# EAGLE library part LPC1114/DIP28 (library microbuilder)
LPC1114 MCU DIP28 Package ARM Cortex M0, 50MHz Operation, 6 Channel 10-Bit ADC, 1²C, SPI, UART, 2x16 Bit and 2x32 Bit Timers, Internal 12MHz Oscillator, 1.8-3.6V operation.
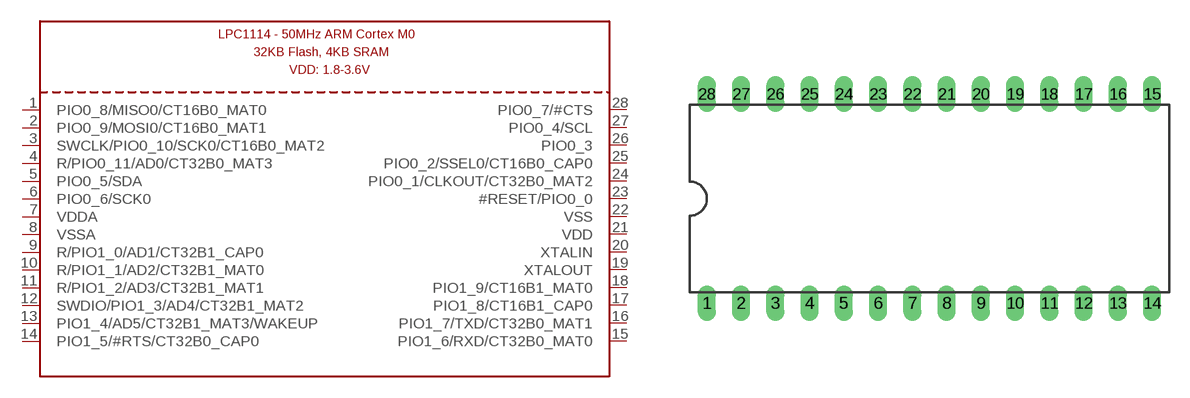
[diagram p166: symbol with the pads of DIL28_600MIL; footprint DIL28_600MIL]

Designator prefix U

## LPC1114/DIP28  [DIL28_600MIL]
1  PIO0_8/MISO0/CT16B0_MAT0
2  PIO0_9/MOSI0/CT16B0_MAT1
3  SWCLK/PIO0_10/SCK0/CT16B0_MAT2
4  R/PIO0_11/AD0/CT32B0_MAT3
5  PIO0_5/SDA
6  PIO0_6/SCK0
7  VDDA
8  VSSA
9  R/PIO1_0/AD1/CT32B1_CAP0
10  R/PIO1_1/AD2/CT32B1_MAT0
11  R/PIO1_2/AD3/CT32B1_MAT1
12  SWDIO/PIO1_3/AD4/CT32B1_MAT2
13  PIO1_4/AD5/CT32B1_MAT3/WAKEUP
14  PIO1_5/#RTS/CT32B0_CAP0
15  PIO1_6/RXD/CT32B0_MAT0
16  PIO1_7/TXD/CT32B0_MAT1
17  PIO1_8/CT16B1_CAP0
18  PIO1_9/CT16B1_MAT0
19  XTALOUT
20  XTALIN
21  VDD
22  VSS
23  #RESET/PIO0_0
24  PIO0_1/CLKOUT/CT32B0_MAT2
25  PIO0_2/SSEL0/CT16B0_CAP0
26  PIO0_3
27  PIO0_4/SCL
28  PIO0_7/#CTS

## Footprint DIL28_600MIL (pad centres in mm)
28-Pin Dual In Line (600 mil)
drill 0.813 long: 1 -16.51,-7.75; 2 -13.97,-7.75; 3 -11.43,-7.75; 4 -8.89,-7.75; 5 -6.35,-7.75; 6 -3.81,-7.75; 7 -1.27,-7.75; 8 1.27,-7.75; 9 3.81,-7.75; 10 6.35,-7.75; 11 8.89,-7.75; 12 11.43,-7.75; 13 13.97,-7.75; 14 16.51,-7.75; 15 16.51,7.75; 16 13.97,7.75; 17 11.43,7.75; 18 8.89,7.75; 19 6.35,7.75; 20 3.81,7.75; 21 1.27,7.75; 22 -1.27,7.75; 23 -3.81,7.75; 24 -6.35,7.75; 25 -8.89,7.75; 26 -11.43,7.75; 27 -13.97,7.75; 28 -16.51,7.75